# EAGLE library part 555248-1 (library con-amp)
AMP CONNECTOR
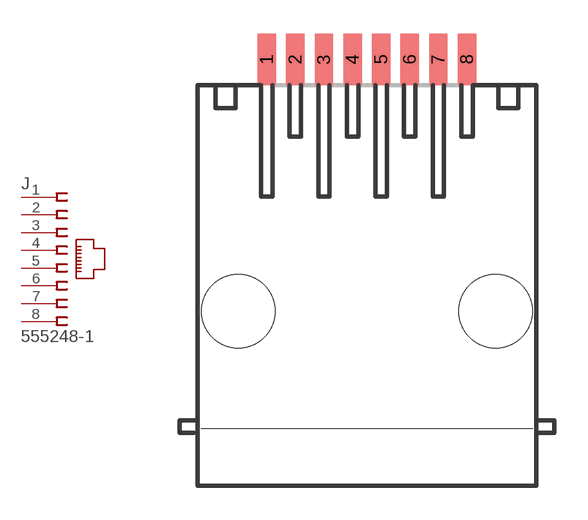
[diagram p35: symbol with the pads of 555248-1; footprint 555248-1]

Designator prefix J

## 555248-1  [555248-1]
1  1  pas
2  2  pas
3  3  pas
4  4  pas
5  5  pas
6  6  pas
7  7  pas
8  8  pas

## Footprint 555248-1 (pad centres in mm)
AMP CONNECTOR
smd 0.813 x 2.286: 1 -4.445,10.033; 2 -3.175,10.033; 3 -1.905,10.033; 4 -0.635,10.033; 5 0.635,10.033; 6 1.905,10.033; 7 3.175,10.033; 8 4.445,10.033
hole 3.251 at -5.715,-1.143
hole 3.251 at 5.715,-1.143